# Altium footprint library PcbLib1.PcbLib: 259 footprints (part 3 of 17)
Each footprint in its own frame and in the unit in brackets; x right, y up, seen from the top. Pads: shape width x height; smd on the part's side, far side on the other; paste and mask are expansions set on the pad; w line width, h text height; cw(c..) or ccw(c..) is an arc to the next point about the centre after c.
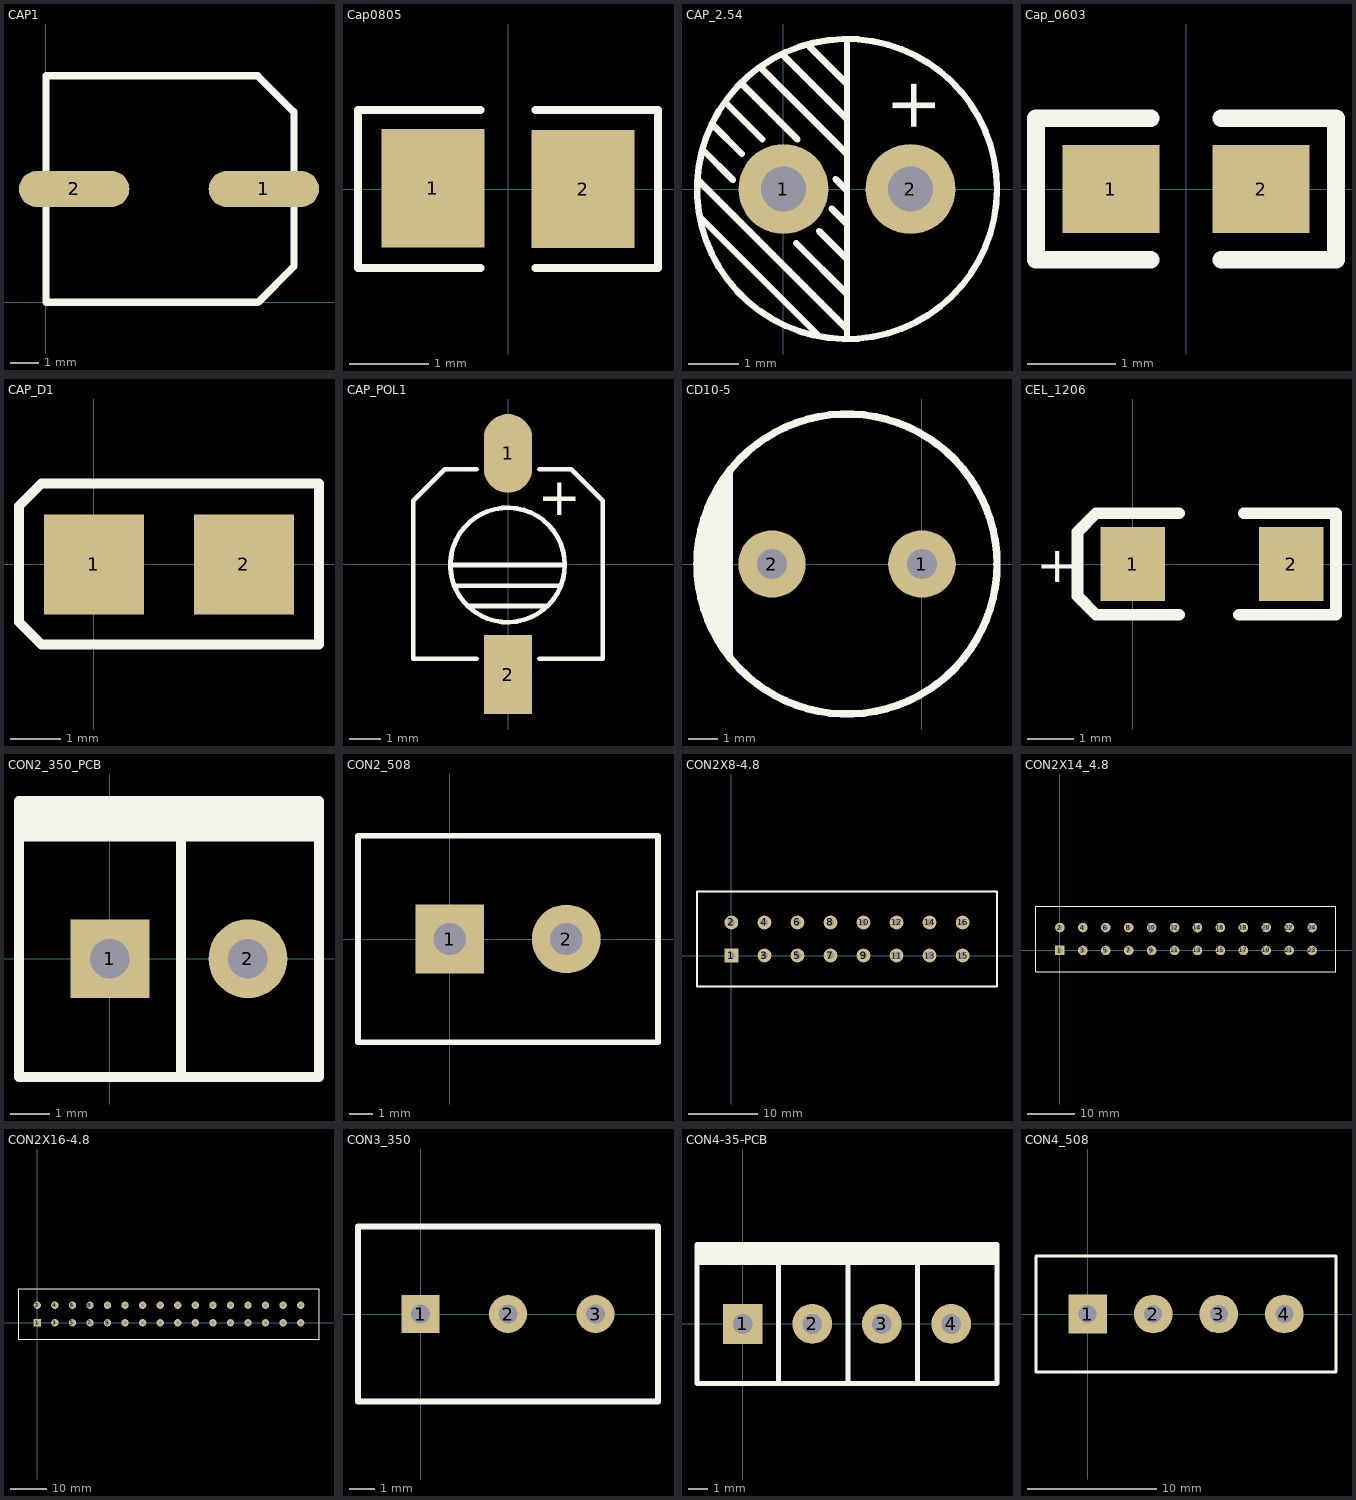
[diagram p2: the footprints below, top view; thin cyan lines are the x and y axes]

## CAP1 [mm]
pads (2):
  oval 3.9x1.27 smd: 1(7.7,4) 2(1,4)
Top Overlay:
  lines w0.254: 0,0 0,8 7.5,8 ; 0.01,0 7.5,0 8.77,1.27 ; 7.48,8 8.76,6.72 ; 8.77,1.28 8.77,6.73

## Cap0805 [mm]
pads (2):
  rect 1.3x1.5 smd: 1(-0.95,0.01) 2(0.95,0)
Top Overlay:
  lines w0.1: -0.35,-1 -1.9,-1 -1.9,1 -0.35,1 ; 0.35,-1 1.9,-1 1.9,1 0.35,1

## CAP_2.54 [mm]
pads (2):
  round 1.8 hole 0.9: 1(0,0) 2(2.54,0)
Top Overlay:
  circle w0.127: c1.27,0 r3
  lines w0.127: -1.68,0.15 1.27,-2.8 ; -1.656,-0.574 0.692,-2.922 ; -1.603,0.773 -1.01,0.18 ; -1.419,1.289 -0.835,0.705 ; -1.155,1.725 -0.425,0.995 ; -0.83,2.1 0.28,0.99 ; -0.43,2.4 1.27,0.7 ; -0.03,2.7 1.27,1.4 ; 0.255,-1.085 1.27,-2.1 ; 0.52,2.85 1.27,2.1 ; 0.71,-0.84 1.27,-1.4 ; 0.96,-0.39 1.27,-0.7 ; 1.04,0.2 1.249,-0.009 ; 1.27,-3 1.27,3
  text "+" at 3.04,1.1 h1

## Cap_0603 [mm]
pads (2):
  rect 1.1x1 smd: 1(-0.85,0) 2(0.85,0)
Top Overlay:
  lines w0.2: -0.4,-0.8 -1.7,-0.8 -1.7,0.8 -0.4,0.8 ; 0.4,-0.8 1.7,-0.8 1.7,0.8 0.4,0.8

## CAP_D1 [mm]
pads (2):
  rect 2x2 smd: 1(0,0) 2(3,0)
Top Overlay:
  lines w0.2: 4.5,1.6 4.5,-1.6 -1.05,-1.6 -1.5,-1.15 -1.5,1.17 -1.05,1.62 4.5,1.62

## CAP_POL1 [mm]
pads (2):
  oval 1.524x2.5 smd: 1(0,3.5)
  rect 1.524x2.5 smd: 2(0,-3.5)
Top Overlay:
  circle w0.15: c-0.012,-0.03 r1.812
  lines w0.15: -1.75,-0.03 1.8,-0.03 ; -1.72,-0.69 1.67,-0.69 ; -1.29,-1.33 1.23,-1.33 ; -1,-3 -3,-3 -3,2 -2,3 -1,3 ; 1,-3 3,-3 3,2 2,3 1,3
  text "+" at 0.94,1.55 h1.2

## CD10-5 [mil]
pads (2):
  round 90 hole 39.37: 1(0,0) 2(-200,0)
Top Overlay:
  circle w10: c-100,0 r200
  rectangle: -262.6,-122.83 -251.97,123.62
  lines w15: -288.19,-56.69 -288.19,57.09 ; -277.56,-85.04 -277.56,85.83 ; -264.96,-104.33 -264.96,105.51

## CEL_1206 [mm]
pads (2):
  rect 1.4x1.6 smd: 1(0,0) 2(3.429,0)
Top Overlay:
  lines w0.254: 1,-1.1 -0.8,-1.1 -1.2,-0.7 -1.2,0.7 -0.8,1.1 1,1.1 ; 2.3,-1.1 4.4,-1.1 4.4,1.1 2.4,1.1
  text "+" at -2.1,-0.4 h0.8

## CON2_350_PCB [mm]
pads (2):
  rect 2x2 hole 1: 1(0,0)
  round 2 hole 1: 2(3.5,0)
Top Overlay:
  rectangle: -2.3,3.1 5.3,4
  lines w0.254: -0.8,3.1 -2.3,3.1 5.3,3.1 3.9,3.1 ; 0.3,3.1 1.8,3.1 3.1,3.1 ; 1.8,-3 1.8,4 ; -2.3,-3 -2.3,4 5.3,4 5.3,-3 -2.3,-3

## CON2_508 [mm]
pads (2):
  rect 3x3 hole 1.4: 1(0,0)
  round 3 hole 1.4: 2(5.08,0)
Top Overlay:
  lines w0.254: -4,-4.5 9.08,-4.5 9.08,4.5 -4,4.5 -4,-4.5

## CON2X8-4.8 [mm]
pads (16):
  rect 2x2 hole 1: 1(0,0)
  round 2 hole 1: 2(0,4.8) 3(4.8,0) 4(4.8,4.8) 5(9.6,0) 6(9.6,4.8) 7(14.4,0) 8(14.4,4.8) 9(19.2,0) 10(19.2,4.8) 11(24,0) 12(24,4.8) 13(28.8,0) 14(28.8,4.8) 15(33.6,0) 16(33.6,4.8)
Top Overlay:
  lines w0.254: -5,-4.5 38.6,-4.5 38.6,9.3 -5,9.3 -5,-4.5

## CON2X14_4.8 [mm]
pads (24):
  rect 2x2 hole 1: 1(0,0)
  round 2 hole 1: 2(0,4.8) 3(4.8,0) 4(4.8,4.8) 5(9.6,0) 6(9.6,4.8) 7(14.4,0) 8(14.4,4.8) 9(19.2,0) 10(19.2,4.8) 11(24,0) 12(24,4.8) 13(28.8,0) 14(28.8,4.8) 15(33.6,0) 16(33.6,4.8) 17(38.4,0) 18(38.4,4.8) 19(43.2,0) 20(43.2,4.8) 21(48,0) 22(48,4.8) 23(52.8,0) 24(52.8,4.8)
Top Overlay:
  lines w0.254: -5,-4.5 57.8,-4.5 57.8,9.3 -5,9.3 -5,-4.5

## CON2X16-4.8 [mm]
pads (32):
  rect 2x2 hole 1: 1(0,0)
  round 2 hole 1: 2(0,4.8) 3(4.8,0) 4(4.8,4.8) 5(9.6,0) 6(9.6,4.8) 7(14.4,0) 8(14.4,4.8) 9(19.2,0) 10(19.2,4.8) 11(24,0) 12(24,4.8) 13(28.8,0) 14(28.8,4.8) 15(33.6,0) 16(33.6,4.8) 17(38.4,0) 18(38.4,4.8) 19(43.2,0) 20(43.2,4.8) 21(48,0) 22(48,4.8) 23(52.8,0) 24(52.8,4.8) 25(57.6,0) 26(57.6,4.8) 27(62.4,0) 28(62.4,4.8) 29(67.2,0) 30(67.2,4.8) 31(72,0) 32(72,4.8)
Top Overlay:
  lines w0.254: -5,-4.5 -5,9.3 77,9.3 77,-4.5 -5,-4.5

## CON3_350 [mil]
pads (3):
  rect 60x60 hole 30: 1(0,0)
  round 60 hole 30: 2(137.8,0) 3(275.59,0)
Top Overlay:
  lines w10: -98.43,-137.8 -98.43,137.8 374.02,137.8 374.02,-137.8 -98.43,-137.8

## CON4-35-PCB [mm]
pads (4):
  rect 2x2 hole 1: 1(0,0)
  round 2 hole 1: 2(3.5,0) 3(7,0) 4(10.5,0)
Top Overlay:
  rectangle: -2.3,3.1 12.8,4
  lines w0.254: -2.3,3.1 -0.8,3.1 12.8,3.1 11.2,3.1 ; 0.3,3.1 1.8,3.1 3.1,3.1 ; 1.8,-3 1.8,4 ; 3.9,3.1 5.3,3.1 6.7,3.1 ; 5.3,-3 5.3,4 ; 7.4,3.1 8.8,3.1 10.3,3.1 ; 8.8,-3 8.8,0 8.8,4 ; -2.3,-3 -2.3,4 5.8,4 9.3,4 12.8,4 12.8,-3 9.3,-3 5.8,-3 -2.3,-3

## CON4_508 [mm]
pads (4):
  rect 3x3 hole 1.4: 1(0,0)
  round 3 hole 1.4: 2(5.08,0) 3(10.16,0) 4(15.24,0)
Top Overlay:
  lines w0.254: -4,-4.5 -4,4.5 19.24,4.5 19.24,-4.5 -4,-4.5